# EAGLE library part AS-ITM-00265 (library tinycircuits)
9 AXIS ACCEL GYRO MAG 3D INEMO 24TFLGA
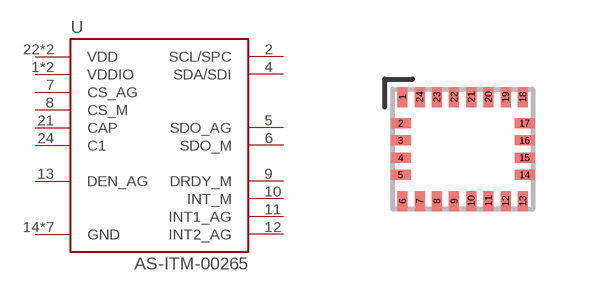
[diagram p106: symbol with the pads of LGA-24; footprint LGA-24]

Designator prefix U

## AS-ITM-00265 (PARTNO: AS-ITM-00265; PNPROTATION: 0; VALUE: LSM9DS1)  [LGA-24]
1  VDDIO
2  SCL/SPC
3  VDDIO
4  SDA/SDI
5  SDO_AG
6  SDO_M
7  CS_AG
8  CS_M
9  DRDY_M
10  INT_M
11  INT1_AG
12  INT2_AG
13  DEN_AG
14  GND
15  GND
16  GND
17  GND
18  GND
19  GND
20  GND
21  CAP
22  VDD
23  VDD
24  C1

## Footprint LGA-24 (pad centres in mm)
smd 0.25 x 0.5: 1 -1.505,1.3; 6 -1.505,-1.3; 7 -1.075,-1.3; 8 -0.645,-1.3; 9 -0.215,-1.3; 10 0.215,-1.3; 11 0.645,-1.3; 12 1.075,-1.3; 13 1.505,-1.3; 18 1.505,1.3; 19 1.075,1.3; 20 0.645,1.3; 21 0.215,1.3; 22 -0.215,1.3; 23 -0.645,1.3; 24 -1.075,1.3
smd 0.5 x 0.25: 2 -1.55,0.645; 3 -1.55,0.215; 4 -1.55,-0.215; 5 -1.55,-0.645; 14 1.55,-0.645; 15 1.55,-0.215; 16 1.55,0.215; 17 1.55,0.645